# EAGLE library part 236-508 (library con-wago_236)
Serie 236, Klemmenleiste für Leiterplatten 2 Lötstifte/Pol / Series 236, PCB terminal strip 2 solder pins/pole Polzahl / Pole No.: 8 Rastermaß / Pitch: 7.62 mm Bemessungsspannung / Rated Voltage: 630 V Nennstrom / Nominal Current: 24 A Leiterquerschnitt / Conductor Size: 0.08 - 2.5 mm² Anschlusstechnik / Connection Technology: CAGE CLAMP® Lötstiftlänge: / Solder Pin Length: 4 mm Leitereinführung (zur Platine) / Conductor entry angle (to PCB): 45 ° Farbe / Color: grau / gray Stand: 01.01.2012. Die jeweils aktuellen Daten zu diesem Artikel finden Sie in unserem Produktkatalog, den Sie unter www.wago.com einsehen können. As of: 01/01/2012. Please find the newest data for this article in our product catalogue, which can be viewed under www.wago.com.
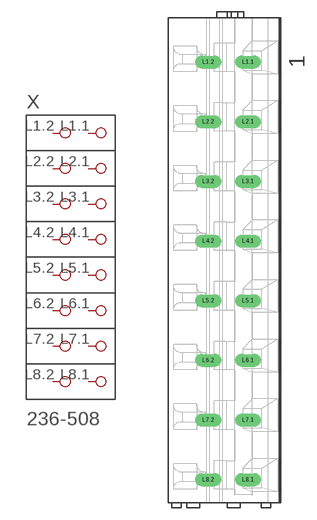
[diagram p29: symbol with the pads of P-236-508; footprint P-236-508]

Designator prefix X

## 236-508  [P-236-508]
L1.1  P1.1
L1.2  P1.2
L2.1  P2.1
L2.2  P2.2
L3.1  P3.1
L3.2  P3.2
L4.1  P4.1
L4.2  P4.2
L5.1  P5.1
L5.2  P5.2
L6.1  P6.1
L6.2  P6.2
L7.1  P7.1
L7.2  P7.2
L8.1  P8.1
L8.2  P8.2

## Footprint P-236-508 (pad centres in mm)
drill 1.1 long: L1.1 2.957,24.85; L1.2 -2.043,24.85; L2.1 2.957,17.35; L2.2 -2.043,17.35; L3.1 2.957,9.85; L3.2 -2.043,9.85; L4.1 2.957,2.35; L4.2 -2.043,2.35; L5.1 2.957,-5.15; L5.2 -2.043,-5.15; L6.1 2.957,-12.65; L6.2 -2.043,-12.65; L7.1 2.957,-20.15; L7.2 -2.043,-20.15; L8.1 2.957,-27.65; L8.2 -2.043,-27.65